# Altium footprint library Pod2.PcbLib: 15 footprints
Each footprint in its own frame and in the unit in brackets; x right, y up, seen from the top. Pads: shape width x height; smd on the part's side, far side on the other; paste and mask are expansions set on the pad; w line width, h text height; cw(c..) or ccw(c..) is an arc to the next point about the centre after c.
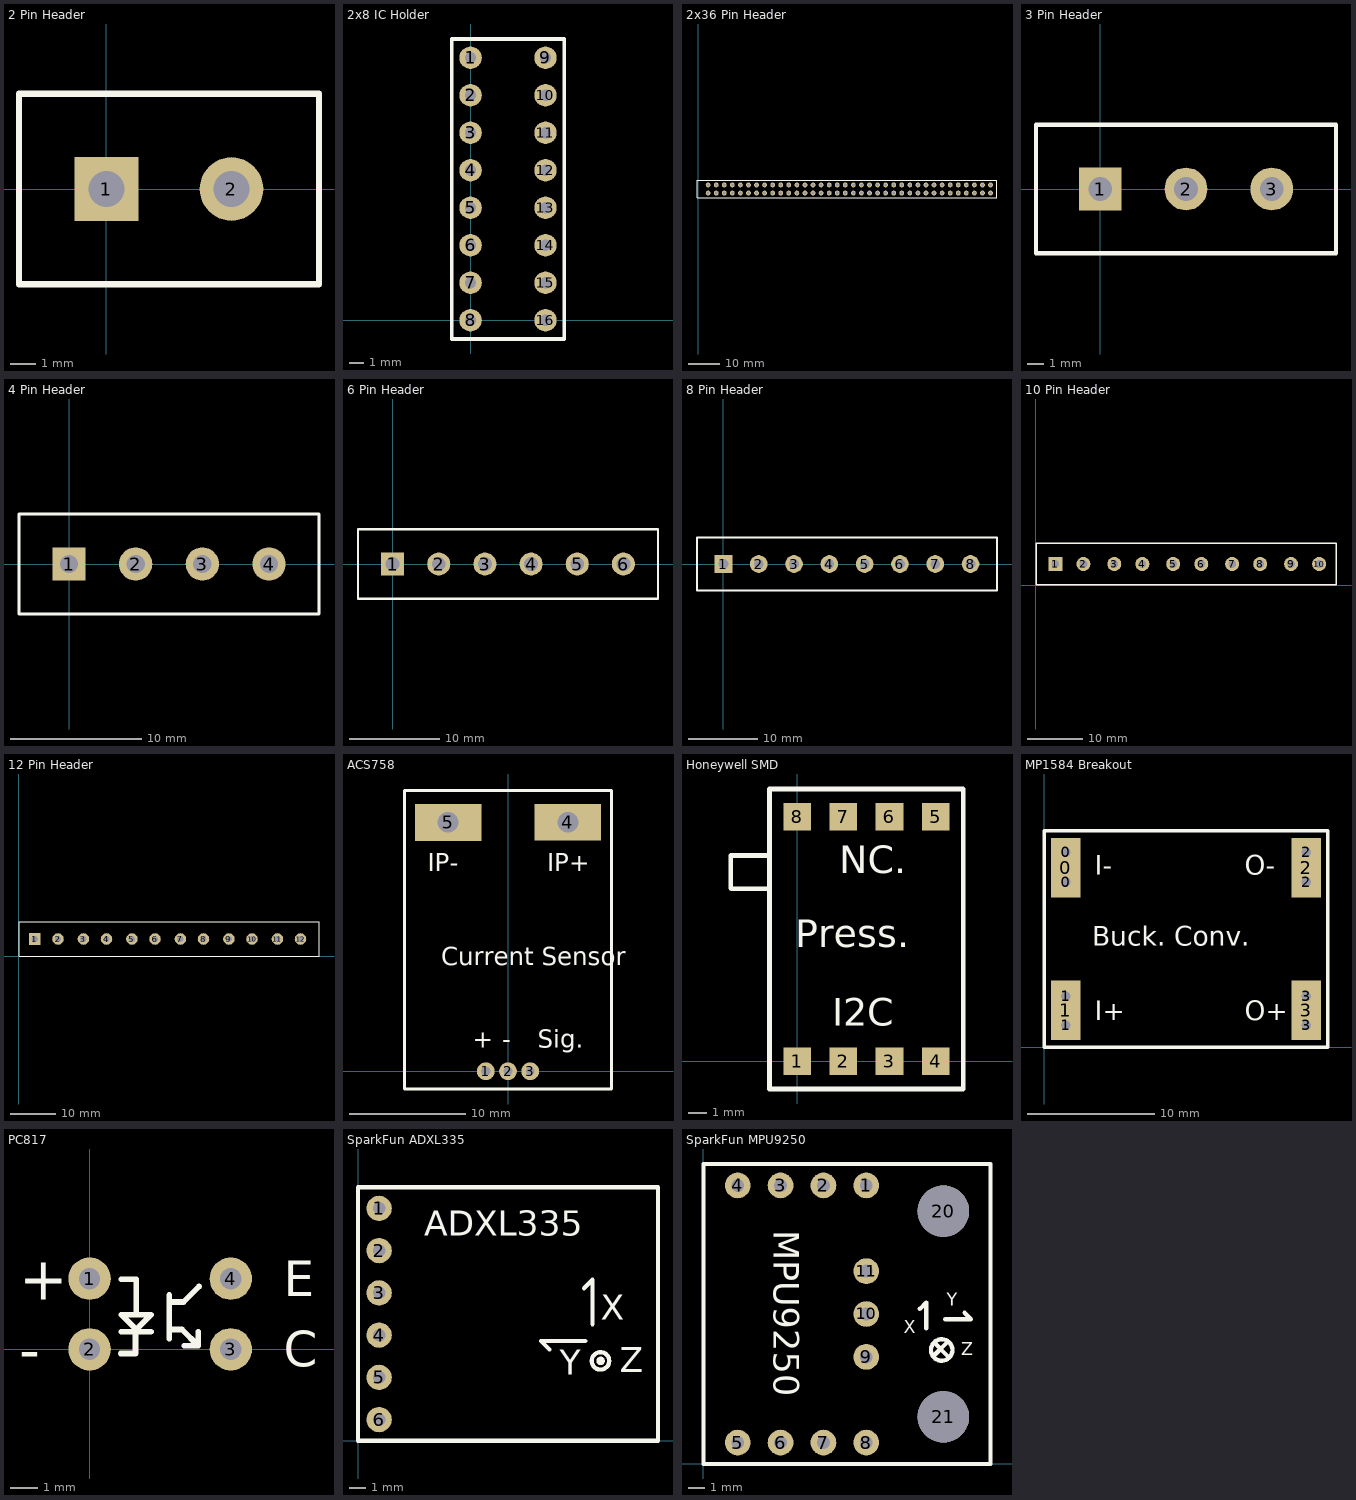
[diagram p0: the footprints below, top view; thin cyan lines are the x and y axes]

## 2 Pin Header [mil] "Screw Terminal"
pads (2):
  rect 100x100 hole 56: 1(0,0)
  round 100 hole 56: 2(196.85,0)
Top Overlay:
  lines w10: -137.79,-150 334.64,-150 334.64,150 -137.79,150 ; -137.79,-149.61 -137.79,149.61

## 2x8 IC Holder [mil]
pads (16):
  round 60 hole 30: 1(0,700) 2(0,600) 3(0,500) 4(0,400) 5(0,300) 6(0,200) 7(0,100) 8(0,0) 9(200,700) 10(200,600) 11(200,500) 12(200,400) 13(200,300) 14(200,200) 15(200,100) 16(200,0)
Top Overlay:
  lines w10: -50,-50 250,-50 250,750 -50,750 -50,-50

## 2x36 Pin Header [mm] "0.1\""
pads (72):
  round 1.5 hole 0.9: 1(3.048,83.312) 2(3.048,85.852) 3(5.588,83.312) 4(5.588,85.852) 5(8.128,83.312) 6(8.128,85.852) 7(10.668,83.312) 8(10.668,85.852) 9(13.208,83.312) 10(13.208,85.852) 11(15.748,83.312) 12(15.748,85.852) 13(18.288,83.312) 14(18.288,85.852) 15(20.828,83.312) 16(20.828,85.852) 17(23.368,83.312) 18(23.368,85.852) 19(25.908,83.312) 20(25.908,85.852) 21(28.448,83.312) 22(28.448,85.852) 23(30.988,83.312) 24(30.988,85.852) 25(33.528,83.312) 26(33.528,85.852) 27(36.068,83.312) 28(36.068,85.852) 29(38.608,83.312) 30(38.608,85.852) 31(41.148,83.312) 32(41.148,85.852) 33(43.688,83.312) 34(43.688,85.852) 35(46.228,83.312) 36(46.228,85.852) 37(48.768,83.312) 38(48.768,85.852) 39(51.308,83.312) 40(51.308,85.852) 41(53.848,83.312) 42(53.848,85.852) 43(56.388,83.312) 44(56.388,85.852) 45(58.928,83.312) 46(58.928,85.852) 47(61.468,83.312) 48(61.468,85.852) 49(64.008,83.312) 50(64.008,85.852) 51(66.548,83.312) 52(66.548,85.852) 53(69.088,83.312) 54(69.088,85.852) 55(71.628,83.312) 56(71.628,85.852) 57(74.168,83.312) 58(74.168,85.852) 59(76.708,83.312) 60(76.708,85.852) 61(79.248,83.312) 62(79.248,85.852) 63(81.788,83.312) 64(81.788,85.852) 65(84.328,83.312) 66(84.328,85.852) 67(86.868,83.312) 68(86.868,85.852) 69(89.408,83.312) 70(89.408,85.852) 71(91.948,83.312) 72(91.948,85.852)
Top Overlay:
  lines w0.254: -0.452,81.788 93.98,81.788 93.98,87.376 -0.452,87.376 -0.452,81.788

## 3 Pin Header [mil] "Screw Terminal"
pads (3):
  rect 100x100 hole 55: 1(0,0)
  round 100 hole 55: 2(200,0) 3(400,0)
Top Overlay:
  lines w10: -150,-150 -150,150 550,150 550,-150 -150,-150

## 4 Pin Header [mm] "Screw Terminal"
pads (4):
  rect 2.54x2.54 hole 1.4: 1(0,0)
  round 2.54 hole 1.4: 2(5.08,0) 3(10.16,0) 4(15.24,0)
Top Overlay:
  lines w0.254: -3.81,-3.81 -3.81,3.81 19.05,3.81 19.05,-3.81 -3.81,-3.81

## 6 Pin Header [mil] "Screw Terminal"
pads (6):
  rect 100x100 hole 60: 1(0,0)
  round 100 hole 60: 2(200,0) 3(400,0) 4(600,0) 5(800,0) 6(1000,0)
Top Overlay:
  lines w10: -150,-150 1150,-150 1150,150 -150,150 -150,-150

## 8 Pin Header [mm] "Screw Terminal"
pads (8):
  rect 2.54x2.54 hole 1.4: 1(0,0)
  round 2.54 hole 1.4: 2(5.08,0) 3(10.16,0) 4(15.24,0) 5(20.32,0) 6(25.4,0) 7(30.48,0) 8(35.56,0)
Top Overlay:
  lines w0.254: -3.81,-3.81 -3.81,3.81 39.37,3.81 39.37,-3.81 -3.81,-3.81

## 10 Pin Header [mm] "Screw Terminal"
pads (10):
  rect 2.54x2.54 hole 1.4: 1(3.556,3.81)
  round 2.54 hole 1.4: 2(8.636,3.81) 3(14.224,3.81) 4(19.304,3.81) 5(24.892,3.81) 6(29.972,3.81) 7(35.56,3.81) 8(40.64,3.81) 9(46.228,3.81) 10(51.308,3.81)
Top Overlay:
  lines w0.254: 0.056,0.01 0.056,7.61 54.356,7.61 54.356,0.01 0.056,0.01

## 12 Pin Header [mm] "Screw Terminal"
pads (12):
  rect 2.54x2.54 hole 1.4: 1(3.556,3.81)
  round 2.54 hole 1.4: 2(8.636,3.81) 3(14.224,3.81) 4(19.304,3.81) 5(24.892,3.81) 6(29.972,3.81) 7(35.56,3.81) 8(40.64,3.81) 9(46.228,3.81) 10(51.308,3.81) 11(56.896,3.81) 12(61.976,3.81)
Top Overlay:
  lines w0.254: 0.056,0.01 66.04,0.01 66.04,7.61 0.056,7.61 0.056,0.01

## ACS758 [mil] "Current Sensor"
pads (5):
  round 60 hole 31.5: 1(-75.2,0)
  round 60 hole 30: 2(0,0) 3(75.2,0)
  rect 225x125 hole 70 square: 4(203,842.52) 5(-203,842)
Top Overlay:
  lines w10: -350,-60 350,-60 350,950 -350,950 -350,-60
  text "Sig." at 100,80 h60
  text "-" at -20,80 h60
  text "+" at -120,80 h60
  text "IP-" at -271,676 h60
  text "IP+" at 132,676 h60
  text "Current Sensor" at -225,359 h60

## Honeywell SMD [mil] "Pressure Temperature Sensor"
pads (8):
  rect 60x60 smd: 1(0,0) 2(100,0) 3(200,0) 4(300,0) 5(300,530) 6(200,530) 7(100,530) 8(0,530)
Top Overlay:
  lines w10: -60,374 -143,374 -144,375 -144,446 -60,446 ; -60,-60 360,-60 360,590 -60,590 -60,-60
  text "Press." at -4,247 h60
  text "I2C" at 76,77 h60
  text "NC." at 91,407 h60

## MP1584 Breakout [mil] "Cheap Amazon"
pads (12):
  round 60 hole 30: 0(67,512) 0(67,604) 1(67,68) 1(67,158) 2(811,512) 2(811,604) 3(811,68) 3(811,158)
  rect 92x185 smd: 0(67,556) 1(67,115) 2(811,556) 3(811,115)
Top Overlay:
  lines w10: 0,0 878,0 878,671 0,671 0,0
  text "O+" at 621,84 h60
  text "O-" at 621,535 h60
  text "I-" at 157,535 h60
  text "I+" at 157,84 h60
  text "Buck. Conv." at 148,315 h60

## PC817 [mil] "Opto-Coupler"
pads (4):
  round 60 hole 30: 1(0,100) 2(0,0) 3(200,0) 4(200,100)
Top Overlay:
  lines w8: 44,-6 65,-6 65,25 ; 45,25 87,25 ; 45,99 66,99 66,49 ; 69,25 45,49 87,49 69,31 ; 113,15 113,77 ; 113,28 131,28 154,5 ; 113,67 133,67 155,89 ; 134,5 154,5 ; 154,25 154,5
  text "+" at -100,70 h60
  text "-" at -100,-30 h60
  text "E" at 275,75 h50
  text "C" at 275,-25 h50

## SparkFun ADXL335 [mil] "Analog Accelerometer"
pads (6):
  round 60 hole 30: 1(50,550) 2(50,450) 3(50,350) 4(50,250) 5(50,150) 6(50,50)
Top Overlay:
  circle w10: c574,189 r20.62
  circle w10: c574,189 r5
  lines w10: 453,216 433,236 538,236 ; 535,361 555,381 555,276 ; 0,0 0,600 83.75,600 231.25,600 710,600 710,0 0,0
  text "ADXL335" at 157,485 h60
  text "X" at 575,286 h60
  text "Z" at 620,162 h60
  text "Y" at 478,156 h60

## SparkFun MPU9250 [mil]
pads (13):
  round 60 hole 30: 1(380,650) 2(280,650) 3(180,650) 4(80,650) 5(80,50) 6(180,50) 7(280,50) 8(380,50) 9(380,250) 10(380,350) 11(380,450)
  round 120 hole 120 unplated: 20(560,590) 21(560,110)
Top Overlay:
  circle w10: c556,266 r25
  lines w10: 505,362 520,377 520,317 ; 541,256 571,286 ; 541,281 571,251 576,251 ; 564,338 624,338 609,353 ; 0,0 0,700 670,700 670,0 0,0
  text "MPU9250" at 164,545 h60
  text "X" at 468,305 h30
  text "Y" at 568,369 h30
  text "Z" at 602,254 h30